# EAGLE library part TAS5611APHD (library texas)
CLASS-D POWER AMP 125W STEREO/250W MONO PurePath? HD ANALOG-INPUT POWER STAGE
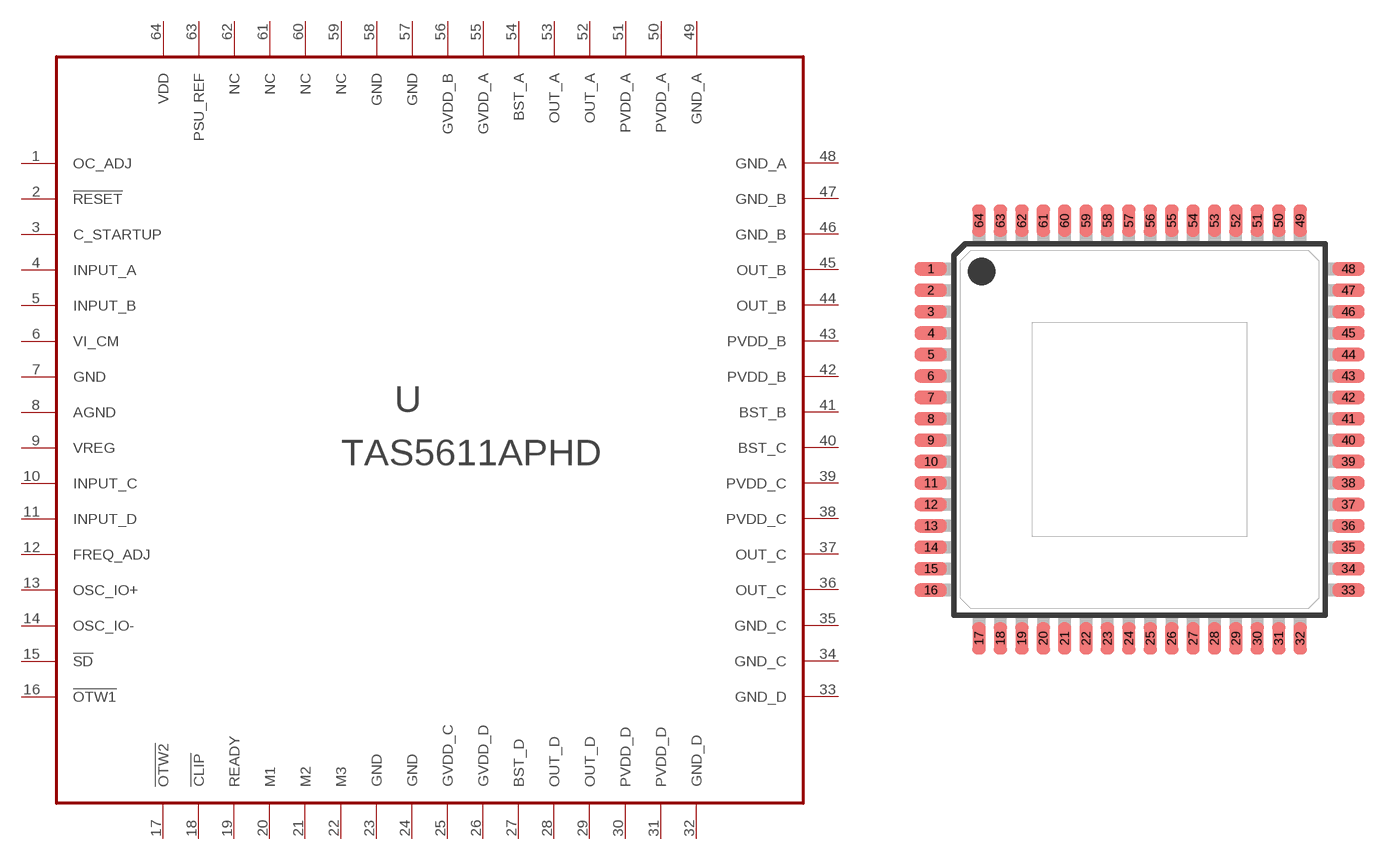
[diagram p50: symbol with the pads of HTQFP64; footprint HTQFP64]

Designator prefix U

## TAS5611APHD  [HTQFP64]
1  OC_ADJ  out
2  !RESET!  in
3  C_STARTUP  out
4  INPUT_A  in
5  INPUT_B  in
6  VI_CM  pas
7  GND  pwr
8  AGND  pwr
9  VREG  pwr
10  INPUT_C  in
11  INPUT_D  in
12  FREQ_ADJ  in
13  OSC_IO+
14  OSC_IO-
15  !SD!  out
16  !OTW1!  out
17  !OTW2!  out
18  !CLIP!  out
19  READY  out
20  M1  in
21  M2  in
22  M3  in
23  GND  pwr
24  GND  pwr
25  GVDD_C  pwr
26  GVDD_D  pwr
27  BST_D  pas
28  OUT_D  pas
29  OUT_D  pas
30  PVDD_D  pwr
31  PVDD_D  pwr
32  GND_D  pwr
33  GND_D  pwr
34  GND_C  pwr
35  GND_C  pwr
36  OUT_C  pas
37  OUT_C  pas
38  PVDD_C  pwr
39  PVDD_C  pwr
40  BST_C  pas
41  BST_B  pas
42  PVDD_B  pwr
43  PVDD_B  pwr
44  OUT_B  pas
45  OUT_B  pas
46  GND_B  pwr
47  GND_B  pwr
48  GND_A  pwr
49  GND_A  pwr
50  PVDD_A  pwr
51  PVDD_A  pwr
52  OUT_A  pas
53  OUT_A  pas
54  BST_A  pas
55  GVDD_A  pwr
56  GVDD_B  pwr
57  GND  pwr
58  GND  pwr
59  NC  in
60  NC  in
61  NC  in
62  NC  in
63  PSU_REF  pas
64  VDD  pwr

## Footprint HTQFP64 (pad centres in mm)
HTQFP 64 - PowerPAD 64 body 14x14 mm, pitch 0.8 mm
smd 1.2 x 0.5: 1 -7.8,6; 2 -7.8,5.2; 3 -7.8,4.4; 4 -7.8,3.6; 5 -7.8,2.8; 6 -7.8,2; 7 -7.8,1.2; 8 -7.8,0.4; 9 -7.8,-0.4; 10 -7.8,-1.2; 11 -7.8,-2; 12 -7.8,-2.8; 13 -7.8,-3.6; 14 -7.8,-4.4; 15 -7.8,-5.2; 16 -7.8,-6; 33 7.8,-6; 34 7.8,-5.2; 35 7.8,-4.4; 36 7.8,-3.6; 37 7.8,-2.8; 38 7.8,-2; 39 7.8,-1.2; 40 7.8,-0.4; 41 7.8,0.4; 42 7.8,1.2; 43 7.8,2; 44 7.8,2.8; 45 7.8,3.6; 46 7.8,4.4; 47 7.8,5.2; 48 7.8,6
smd 0.5 x 1.2: 17 -6,-7.8; 18 -5.2,-7.8; 19 -4.4,-7.8; 20 -3.6,-7.8; 21 -2.8,-7.8; 22 -2,-7.8; 23 -1.2,-7.8; 24 -0.4,-7.8; 25 0.4,-7.8; 26 1.2,-7.8; 27 2,-7.8; 28 2.8,-7.8; 29 3.6,-7.8; 30 4.4,-7.8; 31 5.2,-7.8; 32 6,-7.8; 49 6,7.8; 50 5.2,7.8; 51 4.4,7.8; 52 3.6,7.8; 53 2.8,7.8; 54 2,7.8; 55 1.2,7.8; 56 0.4,7.8; 57 -0.4,7.8; 58 -1.2,7.8; 59 -2,7.8; 60 -2.8,7.8; 61 -3.6,7.8; 62 -4.4,7.8; 63 -5.2,7.8; 64 -6,7.8